# Altium schematic symbol library SCH - ARM CORTEX - STM STM8L101F3Ux.SchLib: 1 symbol
Pins are listed as number, name and electrical type; pins without a type are passive.

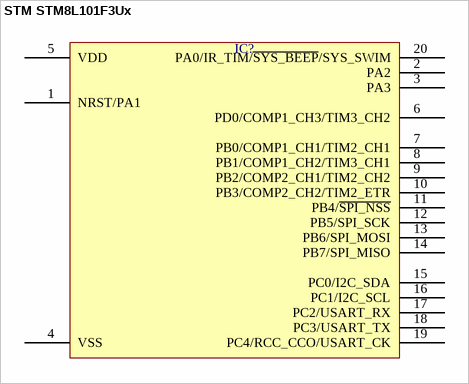
[diagram p0: symbol STM STM8L101F3Ux]

## STM STM8L101F3Ux
designator IC?  (value not drawn)
pins: 1 NRST/PA1, 2 PA2, 3 PA3, 4 VSS, 5 VDD, 6 PD0/COMP1_CH3/TIM3_CH2, 7 PB0/COMP1_CH1/TIM2_CH1, 8 PB1/COMP1_CH2/TIM3_CH1, 9 PB2/COMP2_CH1/TIM2_CH2, 10 PB3/COMP2_CH2/TIM2_ETR, 11 PB4/~{SPI_NSS}, 12 PB5/SPI_SCK, 13 PB6/SPI_MOSI, 14 PB7/SPI_MISO, 15 PC0/I2C_SDA, 16 PC1/I2C_SCL, 17 PC2/USART_RX, 18 PC3/USART_TX, 19 PC4/RCC_CCO/USART_CK, 20 PA0/IR_TIM/~{SYS_BEEP}/SYS_SWIM